# Altium schematic symbol library ERJ-1GNJ105C.SchLib: 1 symbol
Pins are listed as number, name and electrical type; pins without a type are passive.

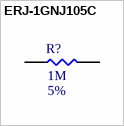
[diagram p0: symbol ERJ-1GNJ105C]

## ERJ-1GNJ105C
designator R?  Resistance: 1M  Tolerance: 5%  (hidden comment: ERJ-1GNJ105C)
RES SMD 1M OHM 5% 1/20W 0201; MFR: Panasonic Electronic Components; PN: ERJ-1GNJ105C; Footprint: RES0201; Package: 0201; ComponentLink1Description: Datasheet; ComponentLink1URL: https://www.mouser.com/datasheet/2/315/AOA0000C301-1488782.pdf; Power Rating: 1/20W; Supplier 1: Mouser; Supplier Part Number 1: 667-ERJ-1GNJ105C
footprint RES0201 (A generic 0201 footprint)
pins: 1, 2